# Altium footprint library interface_PcbLib.PcbLib: 25 footprints (part 2 of 2)
Each footprint in its own frame and in the unit in brackets; x right, y up, seen from the top. Pads: shape width x height; smd on the part's side, far side on the other; paste and mask are expansions set on the pad; w line width, h text height; cw(c..) or ccw(c..) is an arc to the next point about the centre after c.
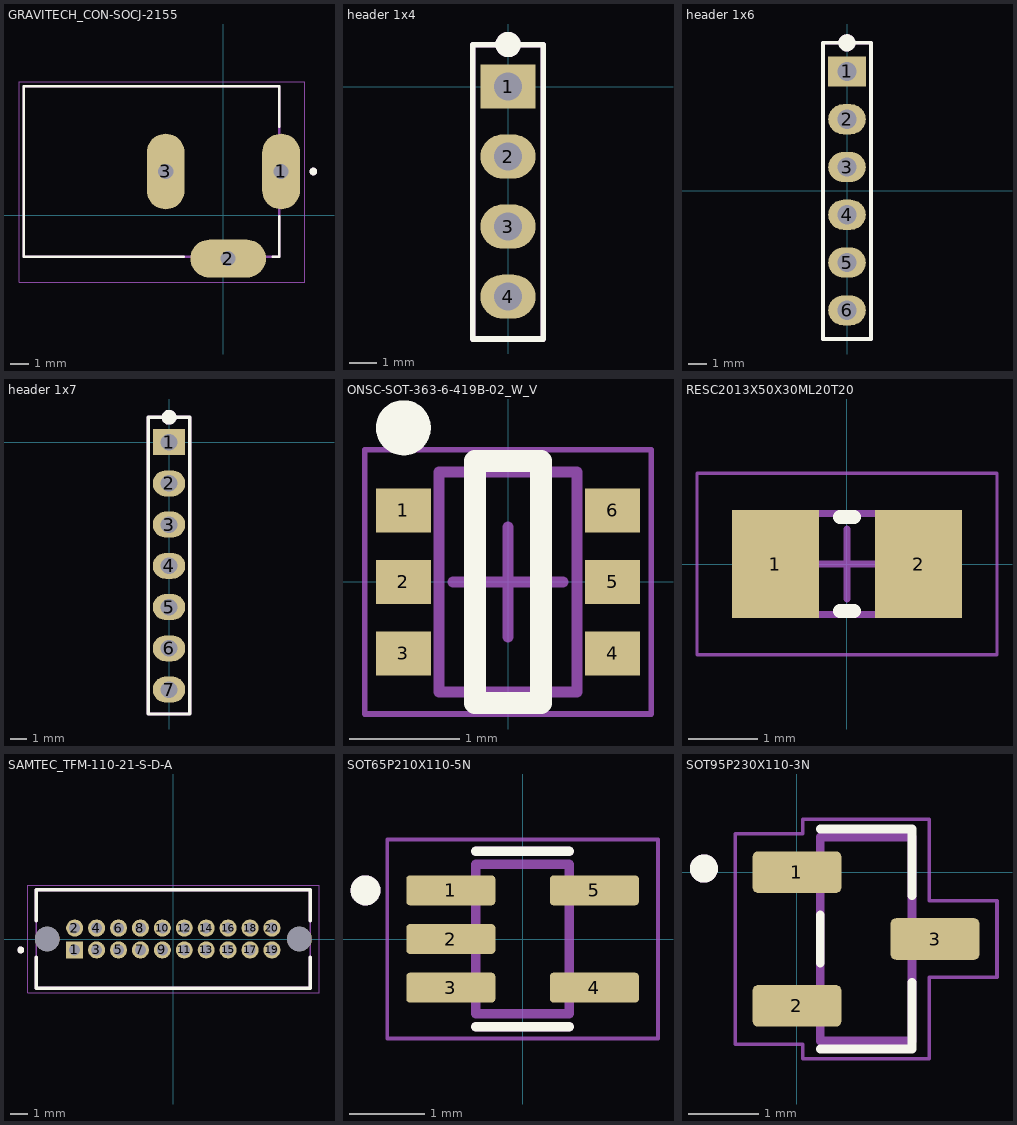
[diagram p1: the footprints below, top view; thin cyan lines are the x and y axes]

## GRAVITECH_CON-SOCJ-2155 [mm]
pads (3):
  oval 2x4 hole 0.8 square: 1(3.05,2.3) 3(-3.05,2.3)
  oval 4x2 hole 0.8 square: 2(0.25,-2.3)
Top Overlay:
  circle w0.2: c4.75,2.3 r0.1
  lines w0.127: -2.1,-2.2 -10.55,-2.2 -10.55,6.8 2.95,6.8 2.95,4.65 ; 2.6,-2.2 2.95,-2.2 2.95,-0.05
Mechanical 13:
  circle w0.2: c4.75,2.3 r0.1
  lines w0.127: -10.55,-2.2 -10.55,6.8 2.95,6.8 2.95,-2.2 -10.55,-2.2
Mechanical 15:
  lines w0.05: -10.8,-3.55 -10.8,7.05 4.3,7.05 4.3,-3.55 -10.8,-3.55
3D body "step_temp.STEP": height 11.1, standoff -4.3, extent -10.55,-2.45 3.55,6.8

## header 1x4 [mm]
pads (4):
  rect 2x1.6 hole 1.02: 1(0,0)
  oval 2x1.6 hole 1.02: 2(0,-2.54) 3(0,-5.08) 4(0,-7.62)
Top Overlay:
  circle w0.508: c0.005,1.52 r0.203
  lines w0.2: -1.27,-9.155 1.27,-9.155 1.27,1.52 -1.26,1.52 -1.27,1.51 -1.27,-9.155
Top Assembly:
  circle w0.508: c0.005,1.52 r0.203
  lines w0.2: -1.27,-9.155 1.27,-9.155 1.27,1.52 -1.26,1.52 -1.27,1.51 -1.27,-9.155
  text "'.Designator'" at 0.417,-9.475 h1

## header 1x6 [mm]
pads (6):
  rect 2x1.6 hole 1.02: 1(0,6.35)
  oval 2x1.6 hole 1.02: 2(0,3.81) 3(0,1.27) 4(0,-1.27) 5(0,-3.81) 6(0,-6.35)
Top Overlay:
  circle w0.508: c-0.005,7.875 r0.203
  lines w0.2: -1.275,-7.875 -1.275,7.875 1.265,7.875 1.27,7.87 1.275,7.875 1.275,-7.875 -1.275,-7.875
Top Assembly:
  circle w0.508: c-0.005,7.875 r0.203
  lines w0.2: -1.275,-7.875 1.275,-7.875 1.275,7.875 1.27,7.87 1.265,7.875 -1.275,7.875 -1.275,-7.875
  text "'.Designator'" at 0.417,-5.665 h1

## header 1x7 [mm]
pads (7):
  rect 2x1.6 hole 1.02: 1(0,0)
  oval 2x1.6 hole 1.02: 2(0,-2.54) 3(0,-5.08) 4(0,-7.62) 5(0,-10.16) 6(0,-12.7) 7(0,-15.24)
Top Overlay:
  circle w0.508: c0.005,1.53 r0.203
  lines w0.2: -1.275,1.53 -1.275,-16.745 1.275,-16.745 1.27,-16.74 ; -1.27,1.52 -1.27,1.525 -1.265,1.53 1.275,1.53 1.275,-16.735
Top Assembly:
  circle w0.508: c0.005,1.53 r0.203
  lines w0.2: -1.275,1.53 -1.275,-16.745 1.275,-16.745 1.27,-16.74 ; -1.27,1.52 -1.27,1.525 -1.265,1.53 1.275,1.53 1.275,-16.735
  text "'.Designator'" at 0.417,-13.285 h1

## ONSC-SOT-363-6-419B-02_W_V [mm] "SOT23, 6-Leads, Body 2x1.25mm, Pitch 0.65mm"
height 1.1
pads (6):
  rect 0.5x0.4 smd: 1(-0.95,0.65) 2(-0.95,0) 3(-0.95,-0.65) 4(0.95,-0.65) 5(0.95,0) 6(0.95,0.65)
Top Overlay:
  circle w0.25: c-0.95,1.4 r0.125
  lines w0.2: -0.3,-1.1 0.3,-1.1 0.3,1.1 -0.3,1.1 -0.3,-1.1
Mechanical 13:
  lines w0.1: -0.625,-1 -0.625,1 0.625,1 0.625,-1 -0.625,-1
Mechanical 15:
  lines w0.05: -1.3,-1.2 -1.3,1.2 1.3,1.2 1.3,-1.2 -1.3,-1.2
  lines w0.1: -0.5,0 0.5,0 ; 0,-0.5 0,0.5
3D body: height 1.1, standoff 0, extent -0.625,-1 0.625,1

## RESC2013X50X30ML20T20 [mm] "Chip Resistor, 2-Leads, Body 2.00x1.25mm, IPC Low Density"
height 0.5
pads (2):
  rect 1.25x1.55 smd: 1(-1.025,0) 2(1.025,0)
Top Overlay:
  lines w0.2: -0.1,-0.675 0.1,-0.675 ; -0.1,0.675 0.1,0.675
Top Assembly:
Mechanical 13:
  lines w0.1: -1.1,-0.725 -1.1,0.725 1.1,0.725 1.1,-0.725 -1.1,-0.725
Mechanical 15:
  lines w0.05: -2.15,-1.3 -2.15,1.3 2.15,1.3 2.15,-1.3 -2.15,-1.3
  lines w0.1: -0.5,0 0.5,0 ; 0,-0.5 0,0.5
3D body: height 0.5, standoff 0, extent -0.8,-0.725 0.8,0.725
3D body: height 0.5, standoff 0, extent -1.1,-0.725 -0.8,0.725
3D body: height 0.5, standoff 0, extent 0.8,-0.725 1.1,0.725

## SAMTEC_TFM-110-21-S-D-A [mm]
pads (22):
  rect 0.985x0.985 hole 0.635: 1(-5.715,-0.635)
  round 0.985 hole 0.635: 2(-5.715,0.635) 3(-4.445,-0.635) 4(-4.445,0.635) 5(-3.175,-0.635) 6(-3.175,0.635) 7(-1.905,-0.635) 8(-1.905,0.635) 9(-0.635,-0.635) 10(-0.635,0.635) 11(0.635,-0.635) 12(0.635,0.635) 13(1.905,-0.635) 14(1.905,0.635) 15(3.175,-0.635) 16(3.175,0.635) 17(4.445,-0.635) 18(4.445,0.635) 19(5.715,-0.635) 20(5.715,0.635)
  round 1.42 hole 1.42 unplated: ""(-7.305,0) ""(7.305,0)
Top Overlay:
  circle w0.2: c-8.84,-0.635 r0.1
  lines w0.2: -7.94,-1.064 -7.94,-2.86 7.94,-2.86 7.94,-1.064 ; -7.94,1.064 -7.94,2.86 7.94,2.86 7.94,1.064
Top Assembly:
  circle w0.2: c-8.84,-0.635 r0.1
  lines w0.2: -7.94,-1.064 -7.94,-2.86 7.94,-2.86 7.94,-1.064 ; -7.94,1.064 -7.94,2.86 7.94,2.86 7.94,1.064
  text "'.Designator'" at -5.665,-0.417 h1
Mechanical 13:
  circle w0.2: c-8.84,-0.635 r0.1
  lines w0.1: -7.94,-2.86 -7.94,2.86 ; -7.94,-2.86 7.94,-2.86 ; -7.94,-2.86 -7.94,2.86 ; -7.94,2.86 7.94,2.86 ; -7.94,2.86 7.94,2.86 ; 7.94,-2.86 7.94,2.86 ; 7.94,-2.86 7.94,2.86
Mechanical 15:
  lines w0.05: -8.44,-3.11 8.44,-3.11 8.44,3.11 -8.44,3.11 -8.44,-3.11

## SOT65P210X110-5N [mm]
pads (5):
  rrect25% 1.19x0.4 smd: 1(-0.96,0.65) 2(-0.96,0) 3(-0.96,-0.65) 4(0.96,-0.65) 5(0.96,0.65)
Top Overlay:
  circle w0.2: c-2.1,0.65 r0.1
  lines w0.127: -0.625,-1.17 0.625,-1.17 ; -0.625,1.17 0.625,1.17
Top Assembly:
  circle w0.2: c-2.1,0.65 r0.1
  lines w0.127: -0.625,-1.17 0.625,-1.17 ; -0.625,1.17 0.625,1.17
  text "'.Designator'" at -3.965,-0.292 h0.7
Mechanical 13:
  circle w0.2: c-2.1,0.65 r0.1
  lines w0.127: -0.625,-1 -0.625,1 0.625,1 0.625,-1 -0.625,-1
Mechanical 15:
  lines w0.05: -1.81,-1.33 -1.81,1.33 1.81,1.33 1.81,-1.33 -1.81,-1.33
3D body "step_temp.STEP": height 1.1, standoff 0, extent -1.05,-1 1.05,1

## SOT95P230X110-3N [mm]
pads (3):
  rrect25% 1.26x0.59 smd: 1(0,0) 2(0,-1.9) 3(1.96,-0.95)
Top Overlay:
  circle w0.2: c-1.32,0.05 r0.1
  lines w0.127: 0.33,-2.509 1.63,-2.509 1.63,-1.565 ; 0.33,-1.292 0.33,-0.609 ; 0.33,0.609 1.63,0.609 1.63,-0.335
Top Assembly:
  text "'.Designator'" at 1.272,-4.915 h0.7
Mechanical 13:
  circle w0.2: c-1.32,0.05 r0.1
  lines w0.127: 0.33,-2.4 0.33,0.5 1.63,0.5 1.63,-2.4 0.33,-2.4
Mechanical 15:
  lines w0.05: -0.88,-2.445 0.08,-2.445 0.08,-2.65 1.88,-2.65 1.88,-1.495 2.84,-1.495 2.84,-0.405 1.88,-0.405 1.88,0.75 0.08,0.75 0.08,0.545 -0.88,0.545 -0.88,-2.445
3D body "NXV55UNR.STEP": height 1.11, standoff 0.01, extent -0.17,-2.4 2.13,0.5